# Altium footprint library WR-MPC4.PcbLib: 79 footprints (part 1 of 5)
Each footprint in its own frame and in the unit in brackets; x right, y up, seen from the top. Pads: shape width x height; smd on the part's side, far side on the other; paste and mask are expansions set on the pad; w line width, h text height; cw(c..) or ccw(c..) is an arc to the next point about the centre after c.
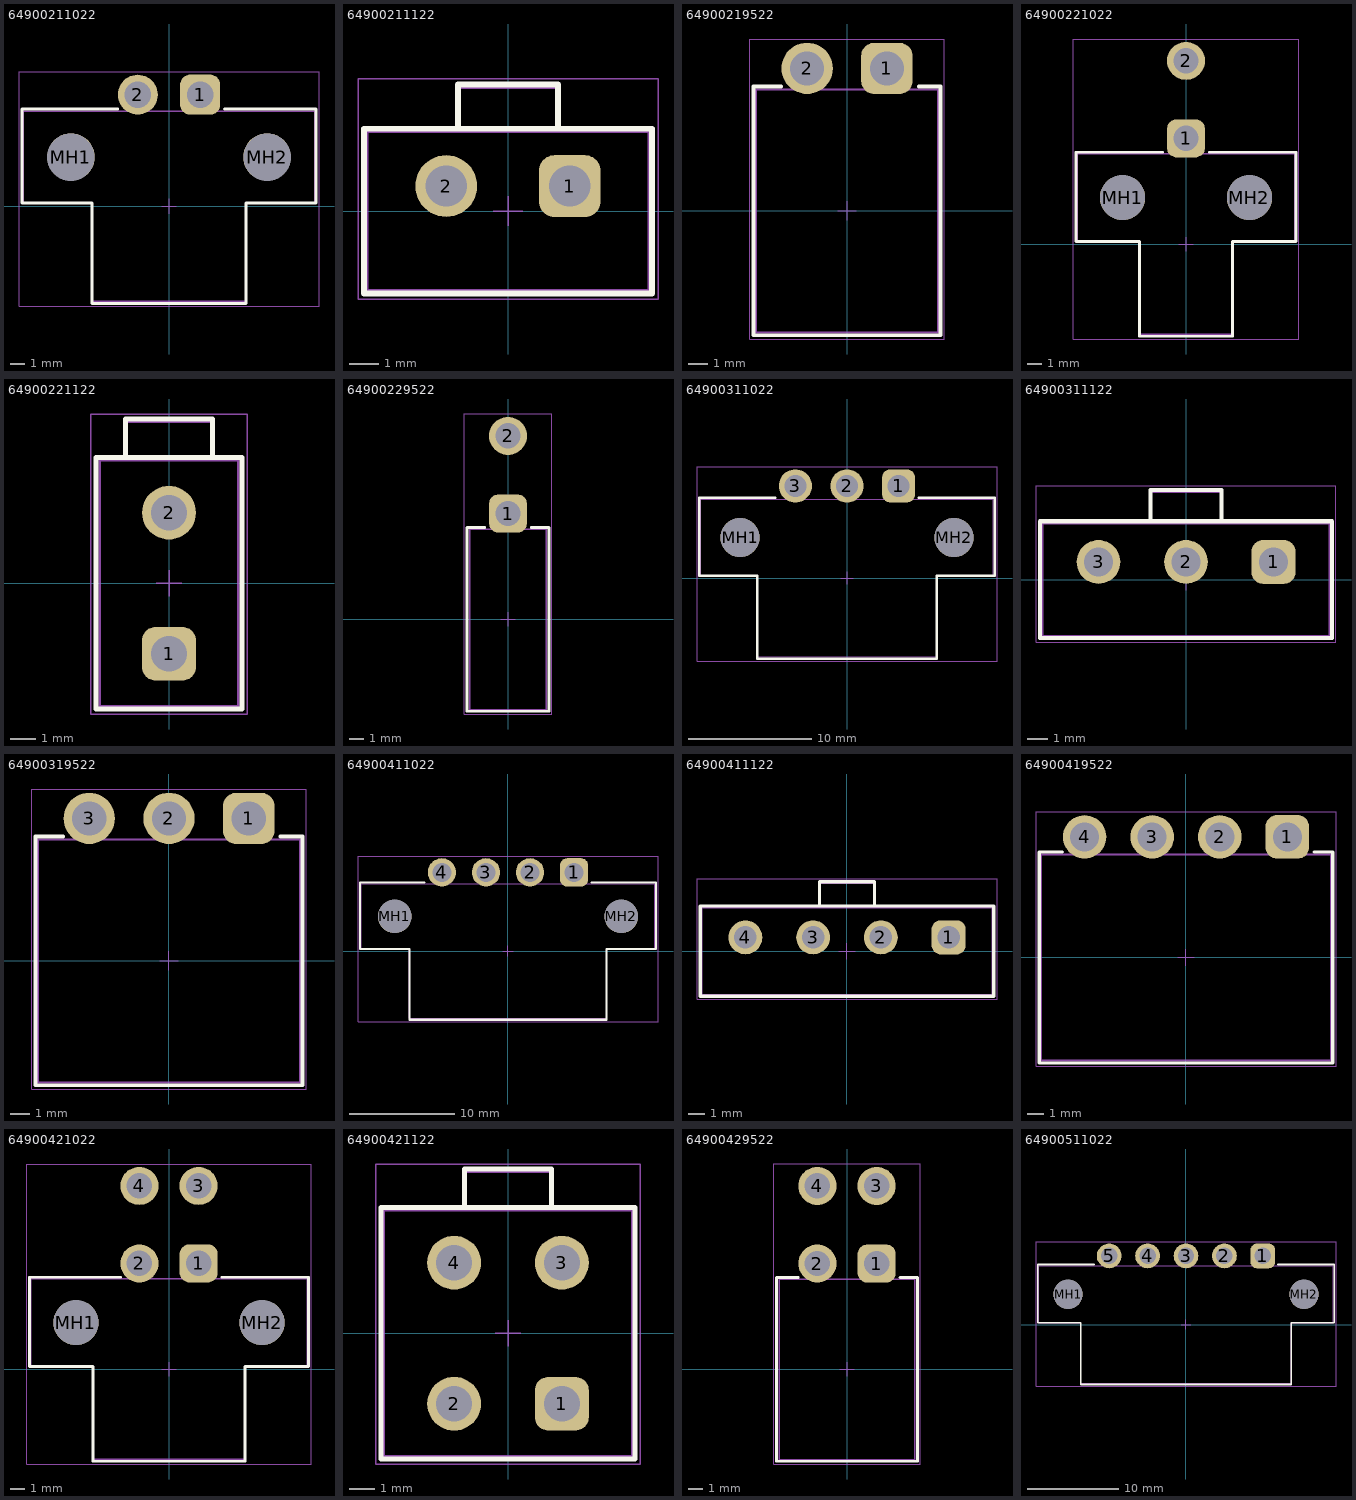
[diagram p0: the footprints below, top view; thin cyan lines are the x and y axes]

## 64900211022 [mm] "4.20mm Male Single Row Angled Header with Mounting Flanges for Screw-in Retention, 2p"
height 5.8
pads (4):
  rrect50% 2.7x2.7 hole 1.8: 1(2.1,7.5)
  round 2.7 hole 1.8: 2(-2.1,7.5)
  round 3.2 hole 3.2 unplated: MH1(-6.6,3.3) MH2(6.6,3.3)
Top Overlay:
  lines w0.2: -3.45,6.55 -9.9,6.55 -9.9,0.2 -5.2,0.2 -5.2,-6.55 5.2,-6.55 5.2,0.2 9.9,0.2 9.9,6.55 3.75,6.55
Top Designator:
  text ".Designator" at -7.498,-0.5 h1.5
Top Component Outline:
  lines w0.1: -9.8,0.2 -9.8,6.4 9.8,6.4 9.8,0.2 5.2,0.2 5.2,-6.4 -5.2,-6.4 -5.2,0.2 -9.8,0.2
Top Courtyard:
  lines w0.05: -0.5,0 0.5,0 ; 0,-0.5 0,0.5 ; -10.1,-6.75 -10.1,9.05 10.1,9.05 10.1,-6.75 -10.1,-6.75
3D body "64900211022.stp": height 7.22, standoff -3.48, extent -9.8,-6.4 9.8,8.02

## 64900211122 [mm] "4.20mm Male Single Row Vertical Header, 2p"
height 12.8
pads (2):
  rrect50% 2.1x2.1 hole 1.4: 1(2.1,0.85)
  round 2.1 hole 1.4: 2(-2.1,0.85)
Top Overlay:
  lines w0.2: -1.7,2.8 -1.7,4.3 1.7,4.3 1.7,2.8 ; -4.9,-2.8 -4.9,2.8 4.9,2.8 4.9,-2.8 -4.9,-2.8
Top Designator:
  text ".Designator" at -7.498,-0.5 h1.5
Top Component Outline:
  lines w0.1: -1.7,2.7 -1.7,4.2 1.7,4.2 1.7,2.7 ; -4.8,-2.7 4.8,-2.7 4.8,2.7 -4.8,2.7 -4.8,-2.7
Top Courtyard:
  lines w0.05: -0.5,0 0.5,0 ; 0,-0.5 0,0.5 ; -5.1,-3 -5.1,4.5 5.1,4.5 5.1,-3 -5.1,-3
3D body "64900211122.stp": height 12.83, standoff -3.47, extent -4.8,-2.7 4.8,4.2

## 64900219522 [mm] "4.20mm Male Single Row Angled Header, 2p"
height 5.8
pads (2):
  rrect50% 2.7x2.7 hole 1.8: 1(2.1,7.5)
  round 2.7 hole 1.8: 2(-2.1,7.5)
Top Overlay:
  lines w0.2: -3.475,6.55 -4.925,6.55 -4.925,-6.55 4.925,-6.55 4.925,6.55 3.775,6.55
Top Designator:
  text ".Designator" at -7.498,-0.5 h1.5
Top Component Outline:
  lines w0.1: -4.8,-6.4 4.8,-6.4 4.8,6.4 -4.8,6.4 -4.8,-6.4
Top Courtyard:
  lines w0.05: -0.5,0 0.5,0 ; 0,-0.5 0,0.5 ; -5.125,-6.75 -5.125,9.05 5.125,9.05 5.125,-6.75 -5.125,-6.75
3D body "64900219522.stp": height 7.23, standoff -3.47, extent -4.8,-6.4 4.8,8.07

## 64900221022 [mm] "4.20mm Male Dual Row Angled Header with Mounting Flanges for Screw-in Retention, 2p"
height 10
pads (4):
  rrect50% 2.7x2.7 hole 1.8: 1(0,7.5)
  round 2.7 hole 1.8: 2(0,13)
  round 3.2 hole 3.2 unplated: MH1(-4.5,3.3) MH2(4.5,3.3)
Top Overlay:
  lines w0.2: -1.65,6.525 -7.8,6.525 -7.8,0.2 -3.3,0.2 -3.3,-6.525 3.3,-6.525 3.3,0.2 7.8,0.2 7.8,6.525 1.65,6.525
Top Designator:
  text ".Designator" at -7.498,-0.5 h1.5
Top Component Outline:
  lines w0.1: -7.7,0.2 -3.3,0.2 -3.3,-6.4 3.3,-6.4 3.3,0.2 7.7,0.2 7.7,6.4 -7.7,6.4 -7.7,0.2
Top Courtyard:
  lines w0.05: -0.5,0 0.5,0 ; 0,-0.5 0,0.5 ; -8,-6.725 8,-6.725 8,14.55 -8,14.55 -8,-6.725
3D body "64900221022.stp": height 11.43, standoff -3.47, extent -7.7,-6.4 7.7,13.57

## 64900221122 [mm] "4.20mm Male Dual Row Vertical Header, 2p"
height 12.8
pads (2):
  rrect50% 2.1x2.1 hole 1.4: 1(0,-2.75)
  round 2.1 hole 1.4: 2(0,2.75)
Top Overlay:
  lines w0.2: -1.7,4.9 -1.7,6.4 1.7,6.4 1.7,4.9 ; -2.85,-4.9 -2.85,4.9 2.85,4.9 2.85,-4.9 -2.85,-4.9
Top Designator:
  text ".Designator" at -7.498,-0.5 h1.5
Top Component Outline:
  lines w0.1: -1.7,4.8 -1.7,6.3 1.7,6.3 1.7,4.8 ; 2.7,4.8 2.7,-4.8 -2.7,-4.8 -2.7,4.8 2.7,4.8 ; 2.7,4.8 2.7,4.8
Top Courtyard:
  lines w0.05: -0.5,0 0.5,0 ; 0,-0.5 0,0.5 ; -3.05,-5.1 3.05,-5.1 3.05,6.6 -3.05,6.6 -3.05,-5.1
3D body "64900221122.stp": height 12.85, standoff -3.45, extent -2.7,-4.8 3.096,6.3

## 64900229522 [mm] "4.20mm Male Dual Row Angled Header, 2p"
height 10
pads (2):
  rrect50% 2.7x2.7 hole 1.8: 1(0,7.5)
  round 2.7 hole 1.8: 2(0,13)
Top Overlay:
  lines w0.2: -1.65,6.5 -2.9,6.5 -2.9,-6.5 2.9,-6.5 2.9,6.5 1.65,6.5
Top Designator:
  text ".Designator" at -7.498,-0.5 h1.5
Top Component Outline:
  lines w0.1: -2.7,-6.4 -2.7,6.4 2.7,6.4 2.7,-6.4 -2.7,-6.4
Top Courtyard:
  lines w0.05: -0.5,0 0.5,0 ; 0,-0.5 0,0.5 ; -3.1,-6.7 3.1,-6.7 3.1,14.55 -3.1,14.55 -3.1,-6.7
3D body "64900229522.stp": height 11.43, standoff -3.47, extent -2.7,-6.4 3.02,13.57

## 64900311022 [mm] "4.20mm Male Single Row Angled Header with Mounting Flanges for Screw-in Retention, 3p"
height 5.8
pads (5):
  rrect50% 2.7x2.7 hole 1.8: 1(4.2,7.5)
  round 2.7 hole 1.8: 2(0,7.5) 3(-4.2,7.5)
  round 3.2 hole 3.2 unplated: MH1(-8.7,3.3) MH2(8.7,3.3)
Top Overlay:
  lines w0.2: -5.85,6.55 -12,6.55 -12,0.2 -7.3,0.2 -7.3,-6.55 7.3,-6.55 7.3,0.2 12,0.2 12,6.55 5.85,6.55
Top Designator:
  text ".Designator" at -7.498,-0.5 h1.5
Top Component Outline:
  lines w0.1: -11.9,0.2 -7.3,0.2 -7.3,-6.4 7.3,-6.4 7.3,0.2 11.9,0.2 11.9,6.4 -11.9,6.4 -11.9,0.2
Top Courtyard:
  lines w0.05: -0.5,0 0.5,0 ; 0,-0.5 0,0.5 ; -12.2,-6.75 12.2,-6.75 12.2,9.05 -12.2,9.05 -12.2,-6.75
3D body "64900311022.stp": height 7.22, standoff -3.48, extent -11.9,-6.4 11.9,8.02

## 64900311122 [mm] "4.20mm Male Single Row Vertical Header, 3p"
height 12.8
pads (3):
  rrect50% 2.1x2.1 hole 1.4: 1(4.2,0.85)
  round 2.1 hole 1.4: 2(0,0.85) 3(-4.2,0.85)
Top Overlay:
  lines w0.2: -1.7,2.8 -1.7,4.3 1.7,4.3 1.7,2.8 ; -7,-2.8 7,-2.8 7,2.8 -7,2.8 -7,-2.8
Top Designator:
  text ".Designator" at -7.498,-0.5 h1.5
Top Component Outline:
  lines w0.1: -1.7,2.7 -1.7,4.2 1.7,4.2 1.7,2.7 ; -6.9,-2.7 -6.9,2.7 6.9,2.7 6.9,-2.7 -6.9,-2.7
Top Courtyard:
  lines w0.05: -0.5,0 0.5,0 ; 0,-0.5 0,0.5 ; -7.2,-3 7.2,-3 7.2,4.5 -7.2,4.5 -7.2,-3
3D body "64900311122.stp": height 12.83, standoff -3.47, extent -6.9,-2.7 6.9,4.2

## 64900319522 [mm] "4.20mm Male Single Row Angled Header, 3p"
height 5.8
pads (3):
  rrect50% 2.7x2.7 hole 1.8: 1(4.2,7.5)
  round 2.7 hole 1.8: 2(0,7.5) 3(-4.2,7.5)
Top Overlay:
  lines w0.2: -5.575,6.55 -7.025,6.55 -7.025,-6.55 7.025,-6.55 7.025,6.55 5.875,6.55
Top Designator:
  text ".Designator" at -7.498,-0.5 h1.5
Top Component Outline:
  lines w0.1: -6.9,-6.4 6.9,-6.4 6.9,6.4 -6.9,6.4 -6.9,-6.4
Top Courtyard:
  lines w0.05: -0.5,0 0.5,0 ; 0,-0.5 0,0.5 ; -7.225,-6.75 -7.225,9.05 7.225,9.05 7.225,-6.75 -7.225,-6.75
3D body "64900319522.stp": height 7.23, standoff -3.47, extent -6.9,-6.4 6.9,8.07

## 64900411022 [mm] "4.20mm Male Single Row Angled Header with Mounting Flanges for Screw-in Retention, 4p"
height 5.8
pads (6):
  rrect50% 2.7x2.7 hole 1.8: 1(6.3,7.5)
  round 2.7 hole 1.8: 2(2.1,7.5) 3(-2.1,7.5) 4(-6.3,7.5)
  round 3.2 hole 3.2 unplated: MH1(-10.8,3.3) MH2(10.8,3.3)
Top Overlay:
  lines w0.2: -7.95,6.55 -14.1,6.55 -14.1,0.2 -9.4,0.2 -9.4,-6.55 9.4,-6.55 9.4,0.2 14.1,0.2 14.1,6.55 7.95,6.55
Top Designator:
  text ".Designator" at -7.498,-0.5 h1.5
Top Component Outline:
  lines w0.1: -14,0.2 -9.4,0.2 -9.4,-6.4 9.4,-6.4 9.4,0.2 14,0.2 14,6.4 -14,6.4 -14,0.2
Top Courtyard:
  lines w0.05: -0.5,0 0.5,0 ; 0,-0.5 0,0.5 ; -14.3,-6.75 -14.3,9.05 14.3,9.05 14.3,-6.75 -14.3,-6.75
3D body "64900411022.stp": height 7.22, standoff -3.48, extent -14,-6.4 14,8.02

## 64900411122 [mm] "4.20mm Male Single Row Vertical Header, 4p"
height 12.8
pads (4):
  rrect50% 2.1x2.1 hole 1.4: 1(6.3,0.85)
  round 2.1 hole 1.4: 2(2.1,0.85) 3(-2.1,0.85) 4(-6.3,0.85)
Top Overlay:
  lines w0.2: -1.7,2.8 -1.7,4.3 1.7,4.3 1.7,2.8 ; -9.1,-2.8 -9.1,2.8 9.1,2.8 9.1,-2.8 -9.1,-2.8
Top Designator:
  text ".Designator" at -7.498,-0.5 h1.5
Top Component Outline:
  lines w0.1: -1.7,2.7 -1.7,4.2 1.7,4.2 1.7,2.7 ; -9,-2.7 9,-2.7 9,2.7 -9,2.7 -9,-2.7
Top Courtyard:
  lines w0.05: -0.5,0 0.5,0 ; 0,-0.5 0,0.5 ; -9.3,-3 -9.3,4.5 9.3,4.5 9.3,-3 -9.3,-3
3D body "64900411122.stp": height 12.83, standoff -3.47, extent -9,-2.7 9,4.2

## 64900419522 [mm] "4.20mm Male Single Row Angled Header, 4p"
height 5.8
pads (4):
  rrect50% 2.7x2.7 hole 1.8: 1(6.3,7.5)
  round 2.7 hole 1.8: 2(2.1,7.5) 3(-2.1,7.5) 4(-6.3,7.5)
Top Overlay:
  lines w0.2: -7.675,6.55 -9.125,6.55 -9.125,-6.55 9.125,-6.55 9.125,6.55 7.975,6.55
Top Designator:
  text ".Designator" at -7.498,-0.5 h1.5
Top Component Outline:
  lines w0.1: -9,-6.4 -9,6.4 9,6.4 9,-6.4 -9,-6.4
Top Courtyard:
  lines w0.05: -0.5,0 0.5,0 ; 0,-0.5 0,0.5 ; -9.325,-6.75 9.325,-6.75 9.325,9.05 -9.325,9.05 -9.325,-6.75
3D body "64900419522.stp": height 7.23, standoff -3.47, extent -9,-6.4 9,8.07

## 64900421022 [mm] "4.20mm Male Dual Row Angled Header with Mounting Flanges for Screw-in Retention, 4p"
height 10
pads (6):
  rrect50% 2.7x2.7 hole 1.8: 1(2.1,7.5)
  round 2.7 hole 1.8: 2(-2.1,7.5) 3(2.1,13) 4(-2.1,13)
  round 3.2 hole 3.2 unplated: MH1(-6.6,3.3) MH2(6.6,3.3)
Top Overlay:
  lines w0.2: -3.45,6.525 -9.9,6.525 -9.9,0.2 -5.4,0.2 -5.4,-6.525 5.4,-6.525 5.4,0.2 9.9,0.2 9.9,6.525 3.75,6.525
Top Designator:
  text ".Designator" at -7.498,-0.5 h1.5
Top Component Outline:
  lines w0.1: -9.8,0.2 -9.8,6.4 9.8,6.4 9.8,0.2 5.4,0.2 5.4,-6.4 -5.4,-6.4 -5.4,0.2 -9.8,0.2
Top Courtyard:
  lines w0.05: -0.5,0 0.5,0 ; 0,-0.5 0,0.5 ; -10.1,-6.725 -10.1,14.55 10.1,14.55 10.1,-6.725 -10.1,-6.725
3D body "64900421022.stp": height 11.43, standoff -3.47, extent -9.8,-6.4 9.8,13.57

## 64900421122 [mm] "4.20mm Male Dual Row Vertical Header, 4p"
height 12.8
pads (4):
  rrect50% 2.1x2.1 hole 1.4: 1(2.1,-2.75)
  round 2.1 hole 1.4: 2(-2.1,-2.75) 3(2.1,2.75) 4(-2.1,2.75)
Top Overlay:
  lines w0.2: -1.7,4.9 -1.7,6.4 1.7,6.4 1.7,4.9 ; -4.95,-4.9 -4.95,4.9 4.95,4.9 4.95,-4.9 -4.95,-4.9
Top Designator:
  text ".Designator" at -7.498,-0.5 h1.5
Top Component Outline:
  lines w0.1: -1.7,4.8 -1.7,6.3 1.7,6.3 1.7,4.8 ; -4.85,-4.8 4.85,-4.8 4.85,4.8 -4.85,4.8 -4.85,-4.8
Top Courtyard:
  lines w0.05: -0.5,0 0.5,0 ; 0,-0.5 0,0.5 ; -5.15,-5.1 5.15,-5.1 5.15,6.6 -5.15,6.6 -5.15,-5.1
3D body "64900421122.stp": height 12.85, standoff -3.45, extent -4.85,-4.8 5.146,6.3

## 64900429522 [mm] "4.20mm Male Dual Row Angled Header, 4p"
height 10
pads (4):
  rrect50% 2.7x2.7 hole 1.8: 1(2.1,7.5)
  round 2.7 hole 1.8: 2(-2.1,7.5) 3(2.1,13) 4(-2.1,13)
Top Overlay:
  lines w0.2: -3.45,6.5 -5,6.5 -5,-6.5 5,-6.5 5,6.5 3.75,6.5
Top Designator:
  text ".Designator" at -7.498,-0.5 h1.5
Top Component Outline:
  lines w0.1: -4.8,-6.4 4.8,-6.4 4.8,6.4 -4.8,6.4 -4.8,-6.4
Top Courtyard:
  lines w0.05: -0.5,0 0.5,0 ; 0,-0.5 0,0.5 ; -5.2,-6.7 -5.2,14.55 5.2,14.55 5.2,-6.7 -5.2,-6.7
3D body "64900429522.stp": height 11.43, standoff -3.47, extent -4.8,-6.4 5.12,13.57

## 64900511022 [mm] "4.20mm Male Single Row Angled Header with Mounting Flanges for Screw-in Retention, 5p"
height 5.8
pads (7):
  rrect50% 2.7x2.7 hole 1.8: 1(8.4,7.5)
  round 2.7 hole 1.8: 2(4.2,7.5) 3(0,7.5) 4(-4.2,7.5) 5(-8.4,7.5)
  round 3.2 hole 3.2 unplated: MH1(-12.9,3.3) MH2(12.9,3.3)
Top Overlay:
  lines w0.2: -10.05,6.55 -16.2,6.55 -16.2,0.2 -11.5,0.2 -11.5,-6.55 11.5,-6.55 11.5,0.2 16.2,0.2 16.2,6.55 10.05,6.55
Top Designator:
  text ".Designator" at -7.498,-0.5 h1.5
Top Component Outline:
  lines w0.1: -16.1,0.2 -16.1,6.4 16.1,6.4 16.1,0.2 11.5,0.2 11.5,-6.4 -11.5,-6.4 -11.5,0.2 -16.1,0.2
Top Courtyard:
  lines w0.05: -0.5,0 0.5,0 ; 0,-0.5 0,0.5 ; -16.4,-6.75 16.4,-6.75 16.4,9.05 -16.4,9.05 -16.4,-6.75
3D body "64900511022.stp": height 7.22, standoff -3.48, extent -16.1,-6.4 16.1,8.02